# Altium integrated library FT232RL.IntLib: 1 symbol
Pins are listed as number, name and electrical type; pins without a type are passive.

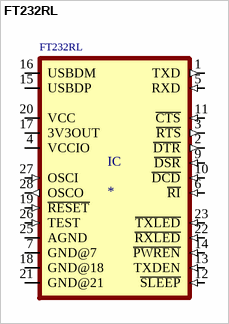
[diagram p0: symbol FT232RL]

## FT232RL
designator IC
USB ë¸Œë¦¬ì§€, USB-UART USB 2.0 UART ì¸í„°íŽ˜ì´ìŠ¤ 28-SSOP; MF: FTDI, Future; MP: FT232RL; Package: SSOP-28 FTDI, Future; Price: None; Availability: Unavailable; SnapEDA_Link: https://www.snapeda.com/parts/FT232RL/FTDI%2C%20Future%20Technology%20Devices%20International%20Ltd/view-part/1077088/?ref=snap; Value: *
footprint SSOP28-LD
pins: 1 TXD (out), 2 ~{DTR} (out), 3 ~{RTS} (out), 4 VCCIO (power), 5 RXD (in), 6 ~{RI} (in), 7 GND@7 (power), 9 ~{DSR} (in), 10 ~{DCD} (in), 11 ~{CTS} (in), 12 ~{SLEEP} (in), 13 TXDEN (in), 14 ~{PWREN} (in), 15 USBDP (io), 16 USBDM (io), 17 3V3OUT (power), 18 GND@18 (power), 19 ~{RESET} (in), 20 VCC (power), 21 GND@21 (power), 22 ~{RXLED} (in), 23 ~{TXLED} (in), 25 AGND (power), 26 TEST (in), 27 OSCI (in), 28 OSCO (out)